# EAGLE library part MIC4604YM-TR (library ruark2)
Half-Bridge Gate Driver IC Non-Inverting 8-SOIC, 85V, 1A
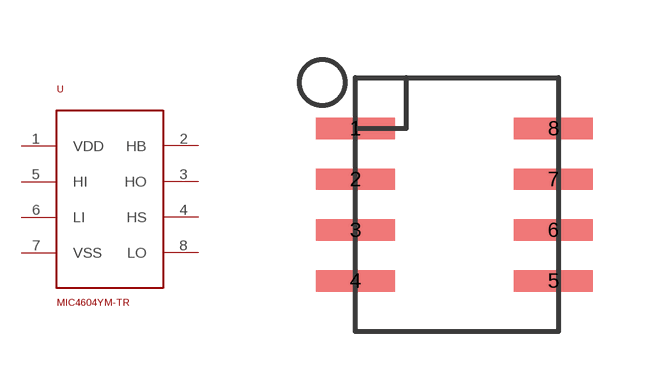
[diagram p58: symbol with the pads of SOIC8; footprint SOIC8]

Designator prefix U

## MIC4604YM-TR (PARTNO: 576-4396-1-ND)  [SOIC8]
1  VDD
2  HB
3  HO
4  HS
5  HI
6  LI
7  VSS
8  LO

## Footprint SOIC8 (pad centres in mm)
smd 1.981 x 0.533: 1 -2.477,1.905; 2 -2.477,0.635; 3 -2.477,-0.635; 4 -2.477,-1.905; 5 2.477,-1.905; 6 2.477,-0.635; 7 2.477,0.635; 8 2.477,1.905